# Altium footprint library PD_BQ_Ref_Design_PCB.PcbLib: 40 footprints (part 1 of 3)
Each footprint in its own frame and in the unit in brackets; x right, y up, seen from the top. Pads: shape width x height; smd on the part's side, far side on the other; paste and mask are expansions set on the pad; w line width, h text height; cw(c..) or ccw(c..) is an arc to the next point about the centre after c.
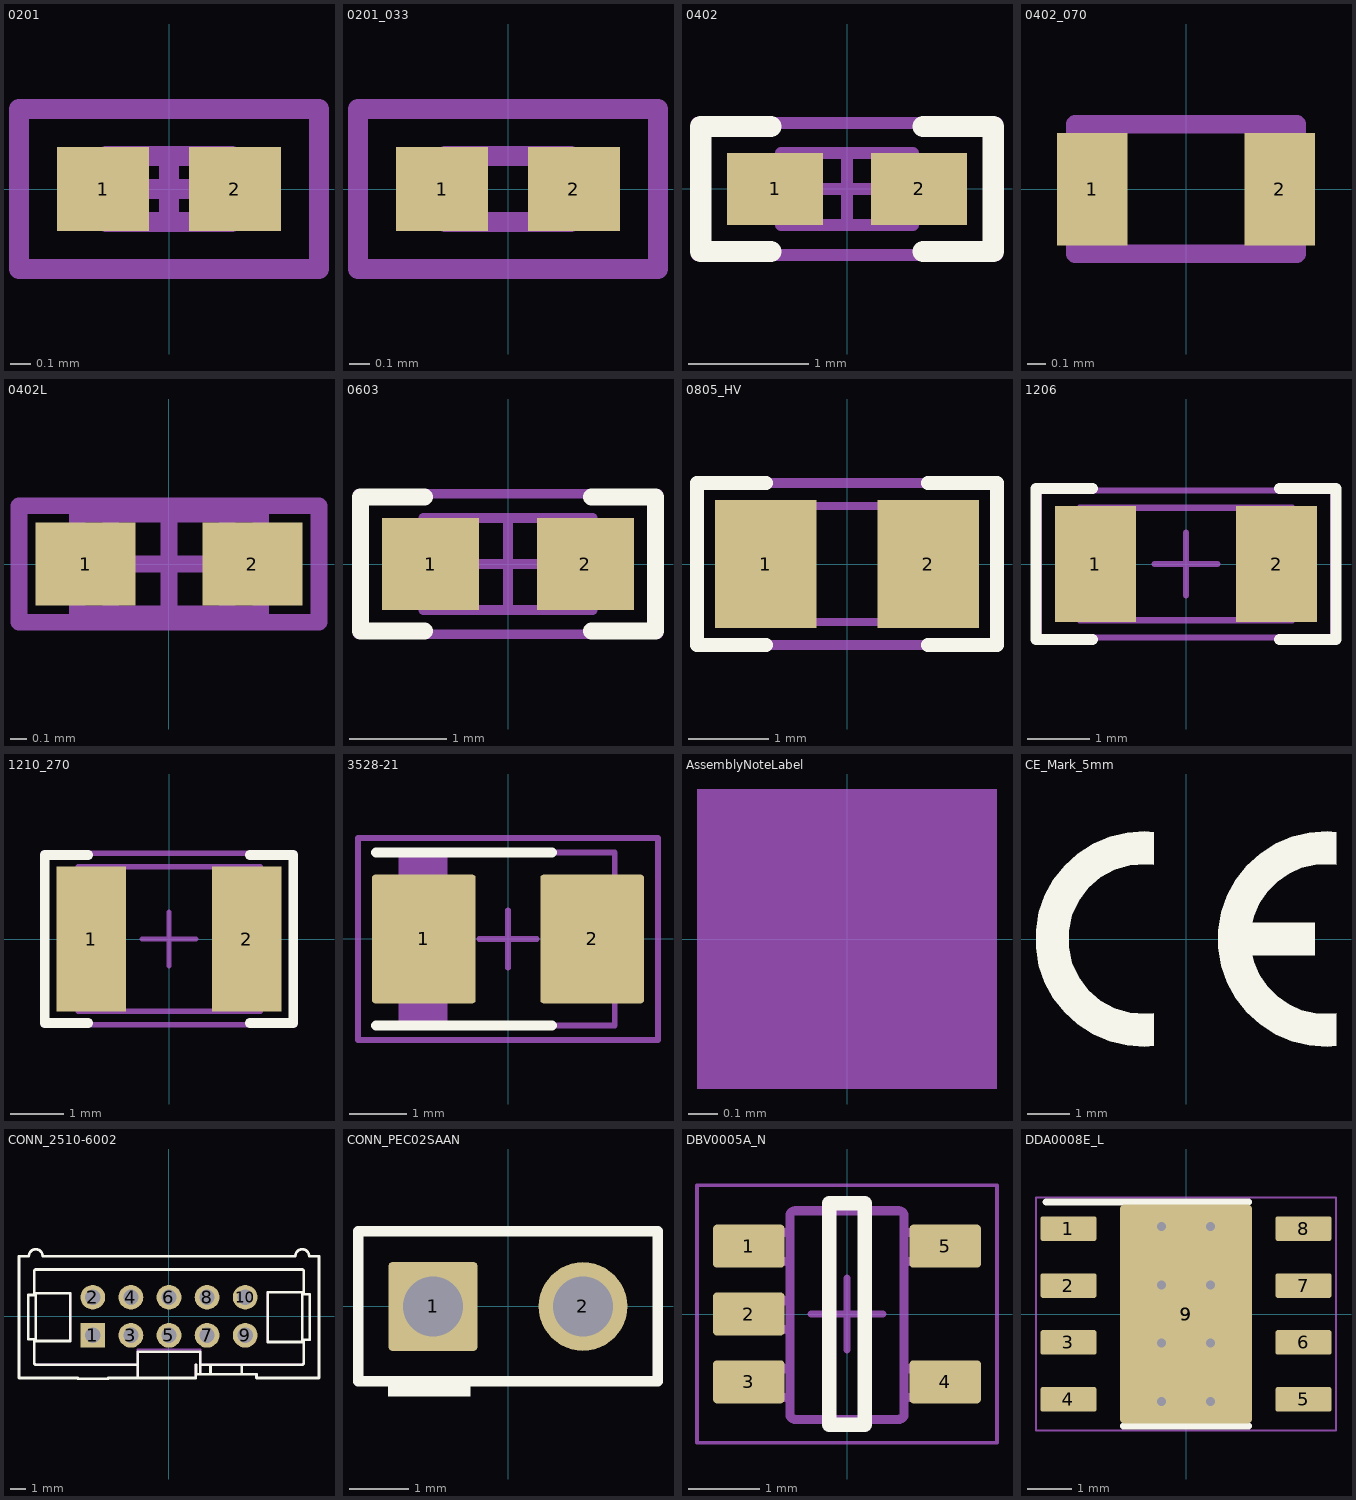
[diagram p0: the footprints below, top view; thin cyan lines are the x and y axes]

## 0201 [mm]
pads (2):
  rect 0.46x0.42 smd: 1(-0.33,0) 2(0.33,0)
Mechanical 5:
  lines w0.1: -0.75,-0.4 -0.75,0.4 0.75,0.4 0.75,-0.4 -0.75,-0.4
  text ".Designator" at -0.66,-0.178 h0.36
Mechanical 13:
  lines w0.1: -0.215,-0.165 -0.215,0.165 ; 0.215,-0.165 0.215,0.165 ; -0.315,-0.165 0.315,-0.165 0.315,0.165 -0.315,0.165 -0.315,-0.165
Mechanical 15:
  lines w0.1: -0.165,0 0.165,0 ; 0,-0.165 0,0.165 ; -0.75,-0.4 0.75,-0.4 0.75,0.4 -0.75,0.4 -0.75,-0.4
3D body: height 0.26, standoff 0, extent 0.216,-0.164 0.314,0.164
3D body: height 0.26, standoff 0, extent -0.214,-0.164 0.214,0.164
3D body: height 0.26, standoff 0, extent -0.314,-0.164 -0.216,0.164

## 0201_033 [mm]
pads (2):
  rect 0.46x0.42 smd: 1(-0.33,0) 2(0.33,0)
Mechanical 5:
  lines w0.1: -0.75,-0.4 -0.75,0.4 0.75,0.4 0.75,-0.4 -0.75,-0.4
  text ".Designator" at -0.66,-0.178 h0.36
Mechanical 13:
  lines w0.1: -0.215,-0.165 -0.215,0.165 ; 0.215,-0.165 0.215,0.165 ; -0.315,-0.165 0.315,-0.165 0.315,0.165 -0.315,0.165 -0.315,-0.165
3D body: height 0.33, standoff 0, extent 0.216,-0.164 0.314,0.164
3D body: height 0.33, standoff 0, extent -0.214,-0.164 0.214,0.164
3D body: height 0.33, standoff 0, extent -0.314,-0.164 -0.216,0.164

## 0402 [mm]
pads (2):
  rect 0.8x0.6 smd: 1(-0.6,0) 2(0.6,0)
Top Overlay:
  lines w0.178: -0.635,-0.521 -1.219,-0.521 -1.219,0.521 -0.635,0.521 ; 0.635,-0.521 1.219,-0.521 1.219,0.521 0.635,0.521
Mechanical 5:
  lines w0.1: -1.25,-0.55 -1.25,0.55 1.25,0.55 1.25,-0.55 -1.25,-0.55
  text ".Designator" at -1.117,-0.305 h0.61
Mechanical 13:
  lines w0.1: -0.35,-0.3 -0.35,0.3 ; 0.35,-0.3 0.35,0.3 ; -0.55,-0.3 0.55,-0.3 0.55,0.3 -0.55,0.3 -0.55,-0.3
Mechanical 15:
  lines w0.1: -0.3,0 0.3,0 ; 0,-0.3 0,0.3 ; -1.25,-0.55 1.25,-0.55 1.25,0.55 -1.25,0.55 -1.25,-0.55
3D body: height 0.6, standoff 0, extent 0.351,-0.299 0.549,0.299
3D body: height 0.6, standoff 0, extent -0.349,-0.299 0.349,0.299
3D body: height 0.6, standoff 0, extent -0.549,-0.299 -0.351,0.299

## 0402_070 [mil]
pads (2):
  rect 15x24 smd: 1(-20,0) 2(20,0)
Mechanical 5:
  lines w3.94: -23.62,-13.78 -23.62,13.78 23.62,13.78 23.62,-13.78 -23.62,-13.78
  text ".Designator" at -21.65,-5.91 h12
3D body: height 27.56, standoff 0, extent 13.78,-13.78 23.62,13.78
3D body: height 27.56, standoff 0, extent -23.62,-13.78 -13.78,13.78
3D body: height 27.56, standoff 0, extent -13.78,-13.78 13.78,13.78

## 0402L [mm]
pads (2):
  rect 0.6x0.5 smd: 1(-0.5,0) 2(0.5,0)
Mechanical 5:
  lines w0.1: -0.9,-0.35 0.9,-0.35 0.9,0.35 -0.9,0.35 -0.9,-0.35
  text ".Designator" at -0.775,-0.225 h0.43
Mechanical 13:
  lines w0.1: -0.35,-0.3 -0.35,0.3 ; 0.35,-0.3 0.35,0.3 ; -0.55,-0.3 -0.55,0.3 0.55,0.3 0.55,-0.3 -0.55,-0.3
Mechanical 15:
  lines w0.1: -0.3,0 0.3,0 ; 0,-0.3 0,0.3 ; -0.9,-0.35 -0.9,0.35 0.9,0.35 0.9,-0.35 -0.9,-0.35
3D body: height 0.6, standoff 0, extent -0.549,-0.299 -0.351,0.299
3D body: height 0.6, standoff 0, extent -0.349,-0.299 0.349,0.299
3D body: height 0.6, standoff 0, extent 0.351,-0.299 0.549,0.299

## 0603 [mm]
pads (2):
  rect 1x0.95 smd: 1(-0.8,0) 2(0.8,0)
Top Overlay:
  lines w0.178: -0.864,-0.691 -1.524,-0.691 -1.524,0.693 -0.864,0.693 ; 0.864,-0.691 1.524,-0.691 1.524,0.693 0.864,0.693
Mechanical 5:
  lines w0.1: -1.55,-0.725 -1.55,0.725 1.55,0.725 1.55,-0.725 -1.55,-0.725
  text ".Designator" at -1.397,-0.381 h0.76
Mechanical 13:
  lines w0.1: -0.55,-0.475 -0.55,0.475 ; 0.55,-0.475 0.55,0.475 ; -0.875,-0.475 0.875,-0.475 0.875,0.475 -0.875,0.475 -0.875,-0.475
Mechanical 15:
  lines w0.1: -0.475,0 0.475,0 ; 0,-0.475 0,0.475 ; -1.55,-0.725 1.55,-0.725 1.55,0.725 -1.55,0.725 -1.55,-0.725
3D body: height 1, standoff 0, extent -0.874,-0.474 -0.551,0.474
3D body: height 1, standoff 0, extent -0.549,-0.474 0.549,0.474
3D body: height 1, standoff 0, extent 0.551,-0.474 0.874,0.474

## 0805_HV [mil]
pads (2):
  rect 50x63 smd: 1(-40,0) 2(40,0)
Top Overlay:
  lines w7: -40,-40 -74,-40 -74,0 -74,40 -40,40 ; 40,-40 74,-40 74,0 74,40 40,40
Mechanical 5:
  lines w5: -74,-40 -74,40 74,40 74,-40 -74,-40
  text ".Designator" at -64,-17 h35
Mechanical 13:
  lines w3.94: -25.59,-28.54 -25.59,28.54 ; 25.59,-28.54 25.59,28.54 ; -43.31,-28.54 -43.31,28.54 43.31,28.54 43.31,-28.54 -43.31,-28.54
3D body: height 57.09, standoff 0, extent 25.61,-28.52 43.29,28.52
3D body: height 57.09, standoff 0, extent -25.57,-28.52 25.57,28.52
3D body: height 57.09, standoff 0, extent -43.29,-28.52 -25.61,28.52

## 1206 [mm]
pads (2):
  rect 1.3x1.85 smd: 1(-1.45,0) 2(1.45,0)
Top Overlay:
  lines w0.178: -1.5,-1.21 -2.4,-1.21 -2.4,1.21 -1.5,1.21 ; 1.5,-1.21 2.4,-1.21 2.4,1.21 1.5,1.21
Mechanical 5:
  lines w0.1: -1.7,-0.9 1.7,-0.9 1.7,0.9 -1.7,0.9 -1.7,-0.9
  text ".Designator" at -1.475,-0.4 h0.81
Mechanical 13:
  lines w0.1: -1.2,-0.9 -1.2,0.9 ; 1.2,-0.9 1.2,0.9 ; -1.7,-0.9 1.7,-0.9 1.7,0.9 -1.7,0.9 -1.7,-0.9
Mechanical 15:
  lines w0.1: -0.5,0 0.5,0 ; 0,-0.5 0,0.5 ; -2.35,-1.175 2.35,-1.175 2.35,1.175 -2.35,1.175 -2.35,-1.175
3D body: height 1.35, standoff 0, extent -1.699,-0.899 -1.201,0.899
3D body: height 1.35, standoff 0, extent -1.199,-0.899 1.199,0.899
3D body: height 1.35, standoff 0, extent 1.201,-0.899 1.699,0.899

## 1210_270 [mm]
pads (2):
  rect 1.3x2.7 smd: 1(-1.45,0) 2(1.45,0)
Top Overlay:
  lines w0.178: -1.511,-1.568 -2.316,-1.568 -2.316,1.568 -1.511,1.568 ; 1.511,-1.568 2.316,-1.568 2.316,1.568 1.511,1.568
Mechanical 5:
  lines w0.1: -1.7,-1.35 -1.7,1.35 1.7,1.35 1.7,-1.35 -1.7,-1.35
  text ".Designator" at -1.4,-0.375 h0.76
Mechanical 13:
  lines w0.1: -1.2,-1.35 -1.2,1.35 ; 1.2,-1.35 1.2,1.35 ; -1.7,-1.35 1.7,-1.35 1.7,1.35 -1.7,1.35 -1.7,-1.35
Mechanical 15:
  lines w0.1: -0.5,0 0.5,0 ; 0,-0.5 0,0.5 ; -2.35,-1.6 2.35,-1.6 2.35,1.6 -2.35,1.6 -2.35,-1.6
3D body: height 2.7, standoff 0, extent 1.201,-1.349 1.699,1.349
3D body: height 2.7, standoff 0, extent -1.199,-1.349 1.199,1.349
3D body: height 2.7, standoff 0, extent -1.699,-1.349 -1.201,1.349

## 3528-21 [mm]
pads (2):
  rrect6% 1.8x2.23 smd: 1(-1.46,0) 2(1.46,0)
Top Overlay:
  lines w0.178: -2.286,-1.5 0.762,-1.5 ; -2.286,1.5 0.762,1.5
Mechanical 5:
  rectangle: -1.85,-1.5 -1.1,1.5
  lines w0.1: -1.1,-1.5 -1.1,1.5 ; -1.85,-1.5 -1.85,1.5 1.85,1.5 1.85,-1.5 -1.85,-1.5
  text ".Designator" at -0.9,-0.4 h1.2
Mechanical 15:
  lines w0.1: -0.5,0 0.5,0 ; 0,-0.5 0,0.5 ; -2.6,-1.75 2.6,-1.75 2.6,1.75 -2.6,1.75 -2.6,-1.75
3D body "3528-21.stp": height 2.12, standoff 0.01, extent -1.85,-1.5 1.85,1.5

## AssemblyNoteLabel [mm]
Mechanical 5:
  rectangle: -0.508,-0.508 0.508,0.508
  text ".Designator" at -4.191,-0.508 h1.52
  text "Install label in silkscreened box after final wash.  Text shall be 8 pt font.  Text shall be per the Label Table in the PDF schematic." at 1.143,-0.508 h1.52

## CE_Mark_5mm [mm]
Top Overlay:
  region: -0.75,-2.487 -0.958,-2.508 -1.376,-2.48 -1.783,-2.383 -2.169,-2.22 -2.522,-1.994 -2.832,-1.714 -3.092,-1.385 -3.293,-1.018 -3.43,-0.622 -3.5,-0.209 -3.5,0.209 -3.43,0.622 -3.293,1.018 -3.092,1.385 -2.832,1.714 -2.522,1.994 -2.169,2.22 -1.783,2.383 -1.376,2.48 -0.958,2.508 -0.75,2.487 -0.75,1.732 -0.937,1.749 -1.31,1.722 -1.669,1.617 -1.998,1.438 -2.281,1.193 -2.505,0.893 -2.66,0.553 -2.74,0.187 -2.74,-0.187 -2.66,-0.553 -2.505,-0.893 -2.281,-1.193 -1.998,-1.438 -1.669,-1.617 -1.31,-1.722 -0.937,-1.749 -0.75,-1.732
  region: 3.5,-1.732 3.337,-1.748 3.01,-1.733 2.691,-1.658 2.392,-1.525 2.123,-1.339 1.894,-1.106 1.712,-0.834 1.583,-0.533 1.541,-0.375 3,-0.375 3,0.375 1.541,0.375 1.583,0.533 1.712,0.834 1.894,1.106 2.123,1.339 2.392,1.525 2.691,1.658 3.01,1.733 3.337,1.748 3.5,1.732 3.5,2.487 3.292,2.508 2.874,2.48 2.467,2.383 2.081,2.22 1.728,1.994 1.418,1.714 1.158,1.385 0.957,1.018 0.82,0.622 0.75,0.209 0.75,-0.209 0.82,-0.622 0.957,-1.018 1.158,-1.385 1.418,-1.714 1.728,-1.994 2.081,-2.22 2.467,-2.383 2.874,-2.48 3.292,-2.508 3.5,-2.487

## CONN_2510-6002 [mm]
pads (10):
  rect 1.65x1.65 hole 1.016: 1(-5.08,-1.27)
  round 1.65 hole 1.016: 2(-5.08,1.27) 3(-2.54,-1.27) 4(-2.54,1.27) 5(0,-1.27) 6(0,1.27) 7(2.54,-1.27) 8(2.54,1.27) 9(5.08,-1.27) 10(5.08,1.27)
Top Overlay:
  lines w0.178: -8.991,-1.649 -6.578,-1.649 -6.578,1.548 -8.991,1.548 ; -8.89,-1.649 -8.89,1.548 ; 8.992,-1.676 8.89,-1.676 ; 8.992,1.575 8.89,1.575 ; -2.095,-4.115 -2.095,-3.226 ; -2.095,-4.115 -3.365,-4.115 -4.063,-4.115 -4.063,-4.165 -6.095,-4.165 -6.095,-4.115 -10.007,-4.115 -10.007,4.013 -9.347,4.013 cw(c-8.89,4.013) -8.433,4.013 8.433,4.013 cw(c8.89,4.013) 9.347,4.013 10.008,4.013 10.008,-4.115 5.842,-4.115 5.842,-3.861 4.852,-3.861 ; -2.095,-4.115 -1.46,-4.115 1.461,-4.115 1.778,-4.115 1.778,-3.226 1.805,-3.226 1.805,-3.861 2.096,-3.861 ; -2.095,-3.226 -3.365,-3.226 -8.864,-3.226 cw(c-8.864,-3.099) -8.991,-3.099 -8.991,-1.526 -9.398,-1.526 -9.398,1.425 -8.991,1.425 -8.991,2.997 cw(c-8.864,2.997) -8.864,3.124 8.865,3.124 cw(c8.865,2.997) 8.992,2.997 8.992,1.473 9.398,1.473 9.398,-1.575 8.992,-1.575 8.992,-3.099 cw(c8.865,-3.099) 8.865,-3.226 4.852,-3.226 ; -2.095,-3.226 -2.095,-2.362 2.096,-2.362 2.096,-3.226 ; 2.096,-3.861 2.096,-3.226 ; 2.096,-3.861 2.769,-3.861 ; 2.096,-3.226 2.769,-3.226 ; 2.769,-3.861 4.852,-3.861 ; 2.769,-3.861 2.769,-3.226 ; 2.769,-3.226 4.852,-3.226 ; 4.852,-3.861 4.852,-3.226 ; 8.89,-1.676 8.89,1.575 ; 8.89,-1.676 8.89,-1.714 6.579,-1.714 6.579,1.613 8.89,1.613 8.89,1.575
Mechanical 5:
  rectangle: -5.588,-1.778 -4.572,-0.762
  lines w0.127: -8.991,-1.649 -6.578,-1.649 -6.578,1.548 -8.991,1.548 ; -8.89,-1.649 -8.89,1.548 ; 8.992,-1.676 8.89,-1.676 ; 8.992,1.575 8.89,1.575 ; -2.095,-4.115 -1.46,-4.115 1.461,-4.115 1.778,-4.115 1.778,-3.226 1.805,-3.226 1.805,-3.861 2.096,-3.861 ; -2.095,-4.115 -3.365,-4.115 -4.063,-4.115 -4.063,-4.165 -6.095,-4.165 -6.095,-4.115 -10.007,-4.115 -10.007,4.013 -9.347,4.013 cw(c-8.89,4.013) -8.433,4.013 8.433,4.013 cw(c8.89,4.013) 9.347,4.013 10.008,4.013 10.008,-4.115 5.842,-4.115 5.842,-3.861 4.852,-3.861 ; -2.095,-4.115 -2.095,-3.226 ; -2.095,-3.226 -2.095,-2.21 2.096,-2.21 2.096,-3.226 ; -2.095,-3.226 -3.365,-3.226 -8.864,-3.226 cw(c-8.864,-3.099) -8.991,-3.099 -8.991,-1.526 -9.398,-1.526 -9.398,1.425 -8.991,1.425 -8.991,2.997 cw(c-8.864,2.997) -8.864,3.124 8.865,3.124 cw(c8.865,2.997) 8.992,2.997 8.992,1.473 9.398,1.473 9.398,-1.575 8.992,-1.575 8.992,-3.099 cw(c8.865,-3.099) 8.865,-3.226 4.852,-3.226 ; 2.096,-3.861 2.769,-3.861 ; 2.096,-3.861 2.096,-3.226 ; 2.096,-3.226 2.769,-3.226 ; 2.769,-3.861 2.769,-3.226 ; 2.769,-3.861 4.852,-3.861 ; 2.769,-3.226 4.852,-3.226 ; 4.852,-3.861 4.852,-3.226 ; 8.89,-1.676 8.89,-1.714 6.579,-1.714 6.579,1.613 8.89,1.613 8.89,1.575 ; 8.89,-1.676 8.89,1.575 ; -5.416,-1.657 -4.743,-1.657 -4.743,-0.984 -5.416,-0.984 -5.416,-1.657 ; -5.391,-1.581 -5.391,-0.959 -4.769,-0.959 -4.769,-1.581 -5.391,-1.581
  text ".Designator" at -1.524,-0.508 h1.02
3D body "3M_2510-6002.stp": height 9.92, standoff -2.83, extent -10.007,-4.115 10.008,4.521

## CONN_PEC02SAAN [mm]
pads (2):
  rrect7% 1.5x1.5 hole 1.016: 1(-1.27,0)
  round 1.5 hole 1.016: 2(1.27,0)
Top Overlay:
  rectangle: -2.032,-1.524 -0.635,-1.27
  lines w0.178: -2.54,-1.27 -2.54,1.27 2.54,1.27 2.54,-1.27 -2.54,-1.27
Mechanical 5:
  lines w0.127: -2.54,-1.27 2.54,-1.27 2.54,1.27 -2.54,1.27 -2.54,-1.27
  text ".Designator" at -1.778,-0.381 h0.76
3D body: height 2.54, standoff 0, extent -2.539,-1.269 2.539,1.269
3D body: height 8.38, standoff -3.05, extent -1.574,-0.304 -0.966,0.304
3D body: height 8.38, standoff -3.05, extent 0.966,-0.304 1.574,0.304

## DBV0005A_N [mm]
pads (5):
  rrect17% 1x0.6 smd: 1(-1.375,0.95) 2(-1.375,0) 3(-1.375,-0.95) 4(1.375,-0.95) 5(1.375,0.95)
Top Overlay:
  lines w0.2: -0.25,-1.55 -0.25,1.55 0.25,1.55 0.25,-1.55 -0.25,-1.55
Mechanical 5:
  lines w0.127: -0.801,1.371 cw(c-0.725,1.37) -0.725,1.446 ; -0.801,1.37 -0.801,1.371 ; -0.801,1.37 -0.801,-1.399 -0.801,-1.4 ccw(c-0.725,-1.399) -0.725,-1.475 ; -0.725,-1.475 0.723,-1.475 0.724,-1.475 ccw(c0.723,-1.399) 0.799,-1.4 0.799,-1.399 0.799,1.37 ; -0.725,-1.475 -0.725,-1.475 ; -0.725,1.446 -0.725,1.446 ; -0.725,1.446 0.723,1.446 0.724,1.446 cw(c0.723,1.37) 0.799,1.371 ; 0.799,1.37 0.799,1.371 ; -1.423,-1.167 -1.423,-0.767 -1.199,-0.767 -1.105,-0.767 -1.088,-0.767 -0.835,-0.767 -0.801,-0.767 -0.801,-1.167 -0.835,-1.167 -1.088,-1.167 -1.105,-1.167 -1.199,-1.167 -1.423,-1.167 ; -1.423,-0.215 -1.423,0.186 -1.199,0.186 -1.105,0.186 -1.088,0.186 -0.835,0.186 -0.801,0.186 -0.801,-0.215 -0.835,-0.215 -1.088,-0.215 -1.105,-0.215 -1.199,-0.215 -1.423,-0.215 ; -1.423,0.738 -1.423,1.138 -1.199,1.138 -1.105,1.138 -1.088,1.138 -0.835,1.138 -0.801,1.138 -0.801,0.738 -0.835,0.738 -1.088,0.738 -1.105,0.738 -1.199,0.738 -1.423,0.738 ; 0.799,-1.167 0.834,-1.167 1.087,-1.167 1.103,-1.167 1.198,-1.167 1.422,-1.167 1.422,-0.767 1.198,-0.767 1.103,-0.767 1.087,-0.767 0.834,-0.767 0.799,-0.767 0.799,-1.167 ; 0.799,0.738 0.834,0.738 1.087,0.738 1.103,0.738 1.198,0.738 1.422,0.738 1.422,1.138 1.198,1.138 1.103,1.138 1.087,1.138 0.834,1.138 0.799,1.138 0.799,0.738
  text ".Designator" at -0.25,0.95 h0.51
Mechanical 15:
  lines w0.05: -2.1,-1.8 -2.1,1.8 2.1,1.8 2.1,-1.8 -2.1,-1.8
  lines w0.1: -0.5,0 0.5,0 ; 0,-0.5 0,0.5
3D body "DBV0005A.stp": height 1.09, standoff 0, extent -1.422,-1.461 1.423,1.46

## DDA0008E_L [mm]
pads (11):
  rrect18% 1.25x0.55 smd: 1(-2.625,1.905) 2(-2.625,0.635) 3(-2.625,-0.635) 4(-2.625,-1.905) 5(2.625,-1.905) 6(2.625,-0.635) 7(2.625,0.635) 8(2.625,1.905)
  rrect7% 2.95x4.9 smd: 9(0,0)
  rrect50% 2.4x3.1 on Top Paste: 9(0,0)
  rrect50% 2.4x3.1 on Top Solder: 9(0,0)
via -0.55,0.65 diameter 0.5 hole 0.2
via 0.55,-1.95 diameter 0.5 hole 0.2
via -0.55,-1.95 diameter 0.5 hole 0.2
via -0.55,1.95 diameter 0.5 hole 0.2
via 0.55,1.95 diameter 0.5 hole 0.2
via 0.55,-0.65 diameter 0.5 hole 0.2
via -0.55,-0.65 diameter 0.5 hole 0.2
via 0.55,0.65 diameter 0.5 hole 0.2
Top Overlay:
  lines w0.152: -3.125,2.5 1.4,2.5 ; -1.4,-2.5 1.4,-2.5
Mechanical 15:
  lines w0.05: -3.35,-2.6 3.35,-2.6 3.35,2.6 -3.35,2.6 -3.35,-2.6
  lines w0.1: -0.5,0 0.5,0 ; 0,-0.5 0,0.5
3D body "DDA0008E.stp": height 1.57, standoff 0, extent -3,-2.45 3,2.45